# Altium schematic symbol library 2171750001.SchLib: 1 symbol
Pins are listed as number, name and electrical type; pins without a type are passive.

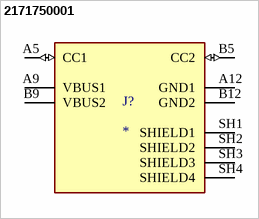
[diagram p0: symbol 2171750001]

## 2171750001
designator J?
USB-C (USB TYPE-C) USB 2.0 Receptacle Connector 24 (6+18 Dummy) Position Surface Mount, Right Angle; Through Hole; MF: Molex; MP: 2171750001; SnapEDA_Link: https://www.snapeda.com/parts/2171750001/Molex/view-part/?ref=snap; Package: None; Value: *; Check_prices: https://www.snapeda.com/parts/2171750001/Molex/view-part/?ref=eda
footprint MOLEX_2171750001
pins: A5 CC1 (io), A9 VBUS1 (power), A12 GND1 (power), B5 CC2 (io), B9 VBUS2 (power), B12 GND2 (power), SH1 SHIELD1, SH2 SHIELD2, SH3 SHIELD3, SH4 SHIELD4